# Altium schematic symbol library AC DC Power Modules.SchLib: 1 symbol
Pins are listed as number, name and electrical type; pins without a type are passive.

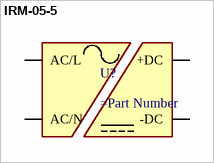
[diagram p0: symbol IRM-05-5]

## IRM-05-5
designator U?
ComponentLink1Description: HelpURL; ComponentLink1URL: https://www.analog.com/media/en/technical-documentation/data-sheets/ADXL345.pdf?src-supplier=Farnell
pins: +DC, -DC, AC/L, AC/N